# EAGLE library part DMP3098LSS-13 (library DMP3098LSS-13)
MOSFET PMOS SINGLE P-CHANNL 30V 5.3A Source: Datasheet <http://www.diodes.com/assets/Datasheets/ds31265.pdf>
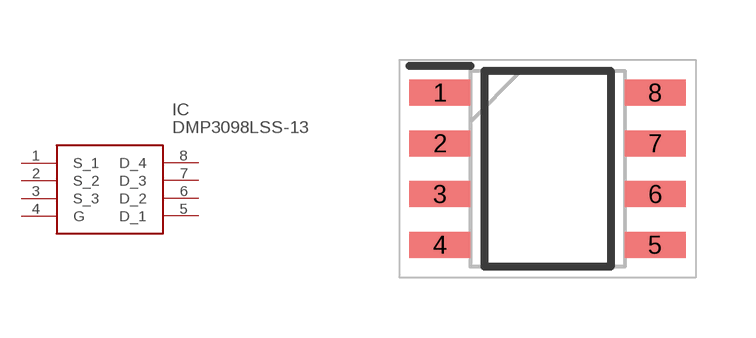
[diagram p0: symbol with the pads of SOIC127P600X175-8N; footprint SOIC127P600X175-8N]

Designator prefix IC

## DMP3098LSS-13 (Description: MOSFET PMOS SINGLE P-CHANNL 30V 5.3A; Height: 1.75mm; Manufacturer_Name: Diodes Inc.; Manufacturer_Part_Number: DMP3098LSS-13; Mouser_Part_Number: 621-DMP3098LSS-13; Mouser_Price-Stock: https://www.mouser.co.uk/ProductDetail/Diodes-Incorporated/DMP3098LSS-13?qs=oUsD4qhOtFzZjT52aJeXQw%3D%3D)  [SOIC127P600X175-8N]
1  S_1
2  S_2
3  S_3
4  G
5  D_1
6  D_2
7  D_3
8  D_4

## Footprint SOIC127P600X175-8N (pad centres in mm)
SOP-8L-1
smd 1.525 x 0.65: 1 -2.688,1.905; 2 -2.688,0.635; 3 -2.688,-0.635; 4 -2.688,-1.905; 5 2.688,-1.905; 6 2.688,-0.635; 7 2.688,0.635; 8 2.688,1.905